# Altium schematic symbol library Kelpie_Pi_Hat_Schematic_Lib.SchLib: 2 symbols
Pins are listed as number, name and electrical type; pins without a type are passive.

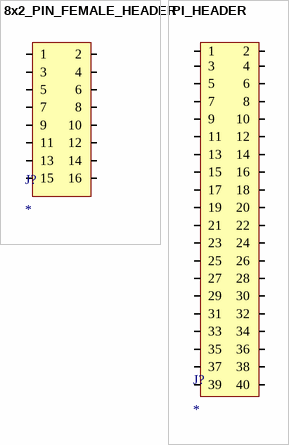
[diagram p0: symbols 8x2_PIN_FEMALE_HEADER to PI_HEADER]

## 8x2_PIN_FEMALE_HEADER
designator J?
https://core-electronics.com.au/0-100-2-54-mm-female-header-2x8-pin-straight.html
pins: 1, 2, 3, 4, 5, 6, 7, 8, 9, 10, 11, 12, 13, 14, 15, 16

## PI_HEADER
designator J?
40 Pin (20x2) Pi Header (Adafruit 2243)
footprint PI_HEADER (40 Pin (20x2) Female Header Row (Adafruit 2243))
footprint 8x2_PIN_FEMALE_HEADER (https://core-electronics.com.au/0-100-2-54-mm-female-header-2x8-pin-straight.html)
pins: 1, 2, 3, 4, 5, 6, 7, 8, 9, 10, 11, 12, 13, 14, 15, 16, 17, 18, 19, 20, 21, 22, 23, 24, 25, 26, 27, 28, 29, 30, 31, 32, 33, 34, 35, 36, 37, 38, 39, 40